# EAGLE library part AO4606 (library elements)
Complementary MOSFET A04606 The AO4606 uses advanced trench technology MOSFETs to provide excellent RDS(ON) and low gate charge. The complementary MOSFETs may be used to form a level shifted high side switch, and for a host of other applications. http://www.aosmd.com/pdfs/datasheet/ao4606.pdf
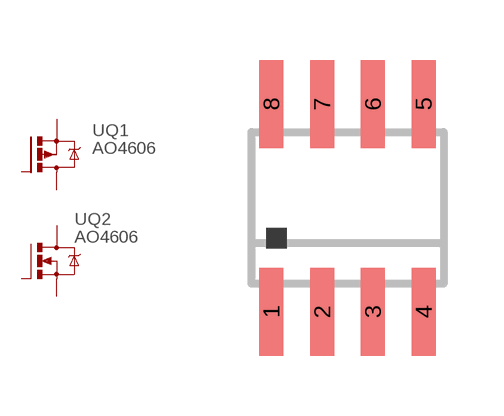
[diagram p3: symbol with the pads of SOIC-8; footprint SOIC-8]

Designator prefix -; gates Q2=MOSFET-N Q1=MOSFET-P

## AO4606  [SOIC-8]
1  Q2:S  pas
2  Q2:G  pas
3  Q1:S  pas
4  Q1:G  pas
5  Q1:D  pas
6  Q1:D  pas
7  Q2:D  pas
8  Q2:D  pas

## Footprint SOIC-8 (pad centres in mm)
Small Outline IC From ref-packages.lbr
smd 0.6 x 2.2: 1 -1.905,-2.6; 2 -0.635,-2.6; 3 0.635,-2.6; 4 1.905,-2.6; 5 1.905,2.6; 6 0.635,2.6; 7 -0.635,2.6; 8 -1.905,2.6